# Altium integrated library 单片机课设.IntLib: 19 symbols
Pins are listed as number, name and electrical type; pins without a type are passive.

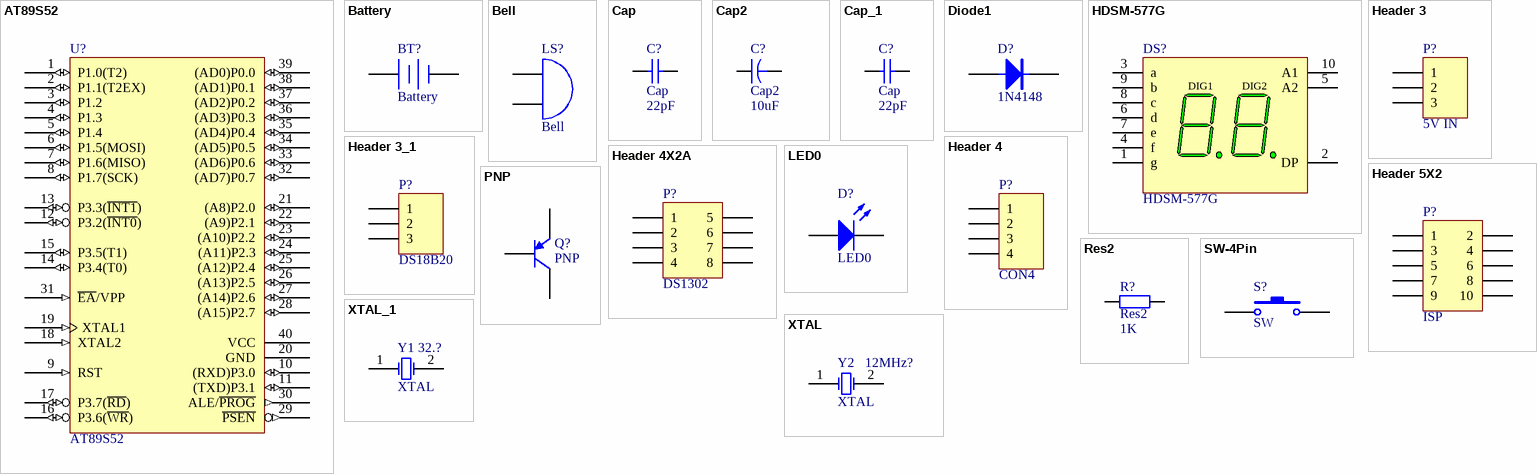
[diagram p0: symbols AT89S52 to XTAL_1]

## AT89S52
designator U?
8-Bit Microcontroller with 8K ISP Flash ROM
footprint DIP-40
pins: 1 P1.0(T2) (io), 2 P1.1(T2EX) (io), 3 P1.2 (io), 4 P1.3 (io), 5 P1.4 (io), 6 P1.5(MOSI) (io), 7 P1.6(MISO) (io), 8 P1.7(SCK) (io), 9 RST (in), 10 (RXD)P3.0 (io), 11 (TXD)P3.1 (io), 12 P3.2(~{INT0}) (io), 13 P3.3(~{INT1}) (io), 14 P3.4(T0) (io), 15 P3.5(T1) (io), 16 P3.6(~{WR}) (io), 17 P3.7(~{RD}) (io), 18 XTAL2 (in), 19 XTAL1 (in), 20 GND (power), 21 (A8)P2.0 (io), 22 (A9)P2.1 (io), 23 (A10)P2.2 (io), 24 (A11)P2.3 (io), 25 (A12)P2.4 (io), 26 (A13)P2.5 (io), 27 (A14)P2.6 (io), 28 (A15)P2.7 (io), 29 ~{PSEN} (out), 30 ALE/~{PROG} (out), 31 ~{EA}/VPP (in), 32 (AD7)P0.7 (io), 33 (AD6)P0.6 (io), 34 (AD5)P0.5 (io), 35 (AD4)P0.4 (io), 36 (AD3)P0.3 (io), 37 (AD2)P0.2 (io), 38 (AD1)P0.1 (io), 39 (AD0)P0.0 (io), 40 VCC (power)

## Battery
designator BT?
Multicell Battery; Published: 24-Mar-1999; LatestRevisionDate: 17-Jul-2002; LatestRevisionNote: Re-released for DXP Platform.; PackageReference: BAT-2; Publisher: Altium Limited
footprint BAT-2 (Multicell Battery; 2 Leads)
pins: 1 +, 2 -

## Bell
designator LS?
Electrical Bell; Published: 24-Mar-1999; LatestRevisionDate: 17-Jul-2002; LatestRevisionNote: Re-released for DXP Platform.; PackageReference: PIN2; Publisher: Altium Limited
footprint SPEAK
pins: 1 A, 2 B

## Cap
designator C?  value 22pF
Capacitor; Published: 8-Jun-2000; LatestRevisionDate: 17-Jul-2002; LatestRevisionNote: Re-released for DXP Platform.; PackageReference: RAD-0.3; Publisher: Altium Limited
footprint CAPR5-4X5 (Capacitor; 2 Leads)
footprint VP32-3.2 (Capacitor, Ceramic, Thru-Hole, Dipped Radial; Body 5.1 x 3.2 mm (WxT) Pin Spacing 2.54 mm (typ))
footprint VP45-3.2 (Capacitor, Ceramic, Thru-Hole, Dipped Radial; Body 7.8 x 3.2 mm (WxT) Pin Spacing 5.08 mm (typ))
simulation model CAP (Capacitor)
signal-integrity model Cap
pins: 1, 2

## Cap2
designator C?  value 10uF
Capacitor; Published: 23-Sep-2002; PackageReference: CAPR5-4X5; Publisher: Altium Limited
footprint CAPR5-4X5 (Capacitor; 2 Leads)
simulation model CAP (Capacitor)
signal-integrity model Cap
pins: 1, 2

## Cap_1
designator C?, comment Cap  value 22pF
Capacitor; Published: 8-Jun-2000; LatestRevisionDate: 17-Jul-2002; LatestRevisionNote: Re-released for DXP Platform.; PackageReference: RAD-0.3; Publisher: Altium Limited
footprint RAD-0.3 (Capacitor; 2 Leads)
footprint VP32-3.2 (Capacitor, Ceramic, Thru-Hole, Dipped Radial; Body 5.1 x 3.2 mm (WxT) Pin Spacing 2.54 mm (typ))
footprint VP45-3.2 (Capacitor, Ceramic, Thru-Hole, Dipped Radial; Body 7.8 x 3.2 mm (WxT) Pin Spacing 5.08 mm (typ))
simulation model CAP (Capacitor)
signal-integrity model Cap
pins: 1, 2

## Diode1
designator D?, comment 1N4148
Diode
footprint RAD.6
pins: 1 A, 2 K
2 alternate drawings of the same symbol

## HDSM-577G
designator DS?
9.2 mm Green 7-Segment Display: 2-Digit, RH DP; LuminousIntensity: 1100 ucd (Minimum).; Published: 26-May-2004; LatestRevisionDate: 11-Oct-2004; LatestRevisionNote: Display outline superimposed on PCB Footprint.; DatasheetDocument: 14-Mar-2003; PackageDocument: 14-Mar-2003; PackageReference: HDSM-577; Publisher: Altium Limited; LED_Colour: Green; ComponentLink1Description: Manufacturer Link; ComponentLink1URL: http://www.agilent.com/
footprint HDSM-577 (LED, 7-Segment Display, 9.2 mm, Dual Digit; 10 Leads; Row Space 10.7 mm; Pitch 2.54 mm)
simulation model HDSM_577G (SUBCKT)
pins: 1 g "Digits (1&2) Cathode", 2 DP "Digits (1&2) Cathode", 3 a "Digits (1&2) Cathode", 4 f "Digits (1&2) Cathode", 5 A2 "Common Anode", 6 d "Digits (1&2) Cathode", 7 e "Digits (1&2) Cathode", 8 c "Digits (1&2) Cathode", 9 b "Digits (1&2) Cathode", 10 A1 "Common Anode"
text: DIG1; DIG2

## Header 3
designator P?, comment 5V IN
Header, 3-Pin; LatestRevisionDate: 17-Jul-2002; LatestRevisionNote: Re-released for DXP Platform.; Publisher: Altium Limited
footprint HDR1X3 (Connector; Header; 3 Position)
signal-integrity model Connector
pins: 1, 2, 3

## Header 3_1
designator P?, comment DS18B20
Header, 3-Pin; LatestRevisionDate: 17-Jul-2002; LatestRevisionNote: Re-released for DXP Platform.; Publisher: Altium Limited
footprint ad590 (U?)
signal-integrity model Connector
pins: 1, 2, 3

## Header 4
designator P?, comment CON4
Header, 4-Pin; LatestRevisionDate: 17-Jul-2002; LatestRevisionNote: Re-released for DXP Platform.; Publisher: Altium Limited
footprint HDR1X4 (Connector; Header; 4 Position)
signal-integrity model Connector
pins: 1, 2, 3, 4

## Header 4X2A
designator P?, comment DS1302
Header, 4-Pin, Dual row; LatestRevisionDate: 17-Jul-2002; LatestRevisionNote: Re-released for DXP Platform.; Publisher: Altium Limited
footprint DIP8
signal-integrity model Connector
pins: 1, 2, 3, 4, 5, 6, 7, 8

## Header 5X2
designator P?, comment ISP
Header, 5-Pin, Dual row; LatestRevisionDate: 17-Jul-2002; LatestRevisionNote: Re-released for DXP Platform.; Publisher: Altium Limited
footprint HDR2X5 (Connector; Header; 5x2 Position)
signal-integrity model Connector
pins: 1, 2, 3, 4, 5, 6, 7, 8, 9, 10

## LED0
designator D?
Typical INFRARED GaAs LED; Published: 8-Jun-2000; LatestRevisionDate: 08-Jul-2005; LatestRevisionNote: Mech Layer 1 removed.; PackageReference: LED-0; Publisher: Altium Limited
footprint LED-0
simulation model LED0 (Diode)
pins: 1 A, 2 K

## PNP
designator Q?
PNP Bipolar Transistor; Published: 8-Jun-2000; LatestRevisionDate: 17-Jul-2002; LatestRevisionNote: Re-released for DXP Platform.; PackageReference: SOT-23B; Publisher: Altium Limited; Code_JEDEC: SOT-23
footprint E3 (TO, Flat Index; 3 In-Line, Axial Leads; Body Dia. 4.6mm; Lead Dia. 0.5 mm (max))
simulation model PNP
signal-integrity model PNP
pins: 1 C, 2 B, 3 E

## Res2
designator R?  value 1K
Resistor; Published: 8-Jun-2000; LatestRevisionDate: 17-Jul-2002; LatestRevisionNote: Re-released for DXP Platform.; PackageReference: AXIAL-0.4; Publisher: Altium Limited
footprint AXIAL-0.4 (Resistor; 2 Leads)
simulation model RESISTOR (Resistor)
signal-integrity model Res
pins: 1, 2

## SW-4Pin
designator S?, comment SW
2X2Pin
footprint SW4/6
pins: 1, 2

## XTAL
designator Y2   12MHz?
Crystal Oscillator; Published: 8-Jun-2000; LatestRevisionDate: 17-Jul-2002; LatestRevisionNote: Re-released for DXP Platform.; PackageReference: R38; Publisher: Altium Limited
footprint XTAL1 (Crystal, Thru-Hole; 2 Leads; Body 3.1 x 8.2 mm (HxW))
simulation model XTAL (Spice Subcircuit)
pins: 1 OSC1, 2 OSC2

## XTAL_1
designator Y1 32.?, comment XTAL
Crystal Oscillator; Published: 8-Jun-2000; LatestRevisionDate: 17-Jul-2002; LatestRevisionNote: Re-released for DXP Platform.; PackageReference: R38; Publisher: Altium Limited
footprint R38 (Crystal, Thru-Hole; 2 Leads; Body 3.1 x 8.2 mm (Dia.xH))
simulation model XTAL (Spice Subcircuit)
pins: 1 OSC1, 2 OSC2